# Altium footprint library Train2.PCBLIB: 223 footprints (part 11 of 14)
Each footprint in its own frame and in the unit in brackets; x right, y up, seen from the top. Pads: shape width x height; smd on the part's side, far side on the other; paste and mask are expansions set on the pad; w line width, h text height; cw(c..) or ccw(c..) is an arc to the next point about the centre after c.
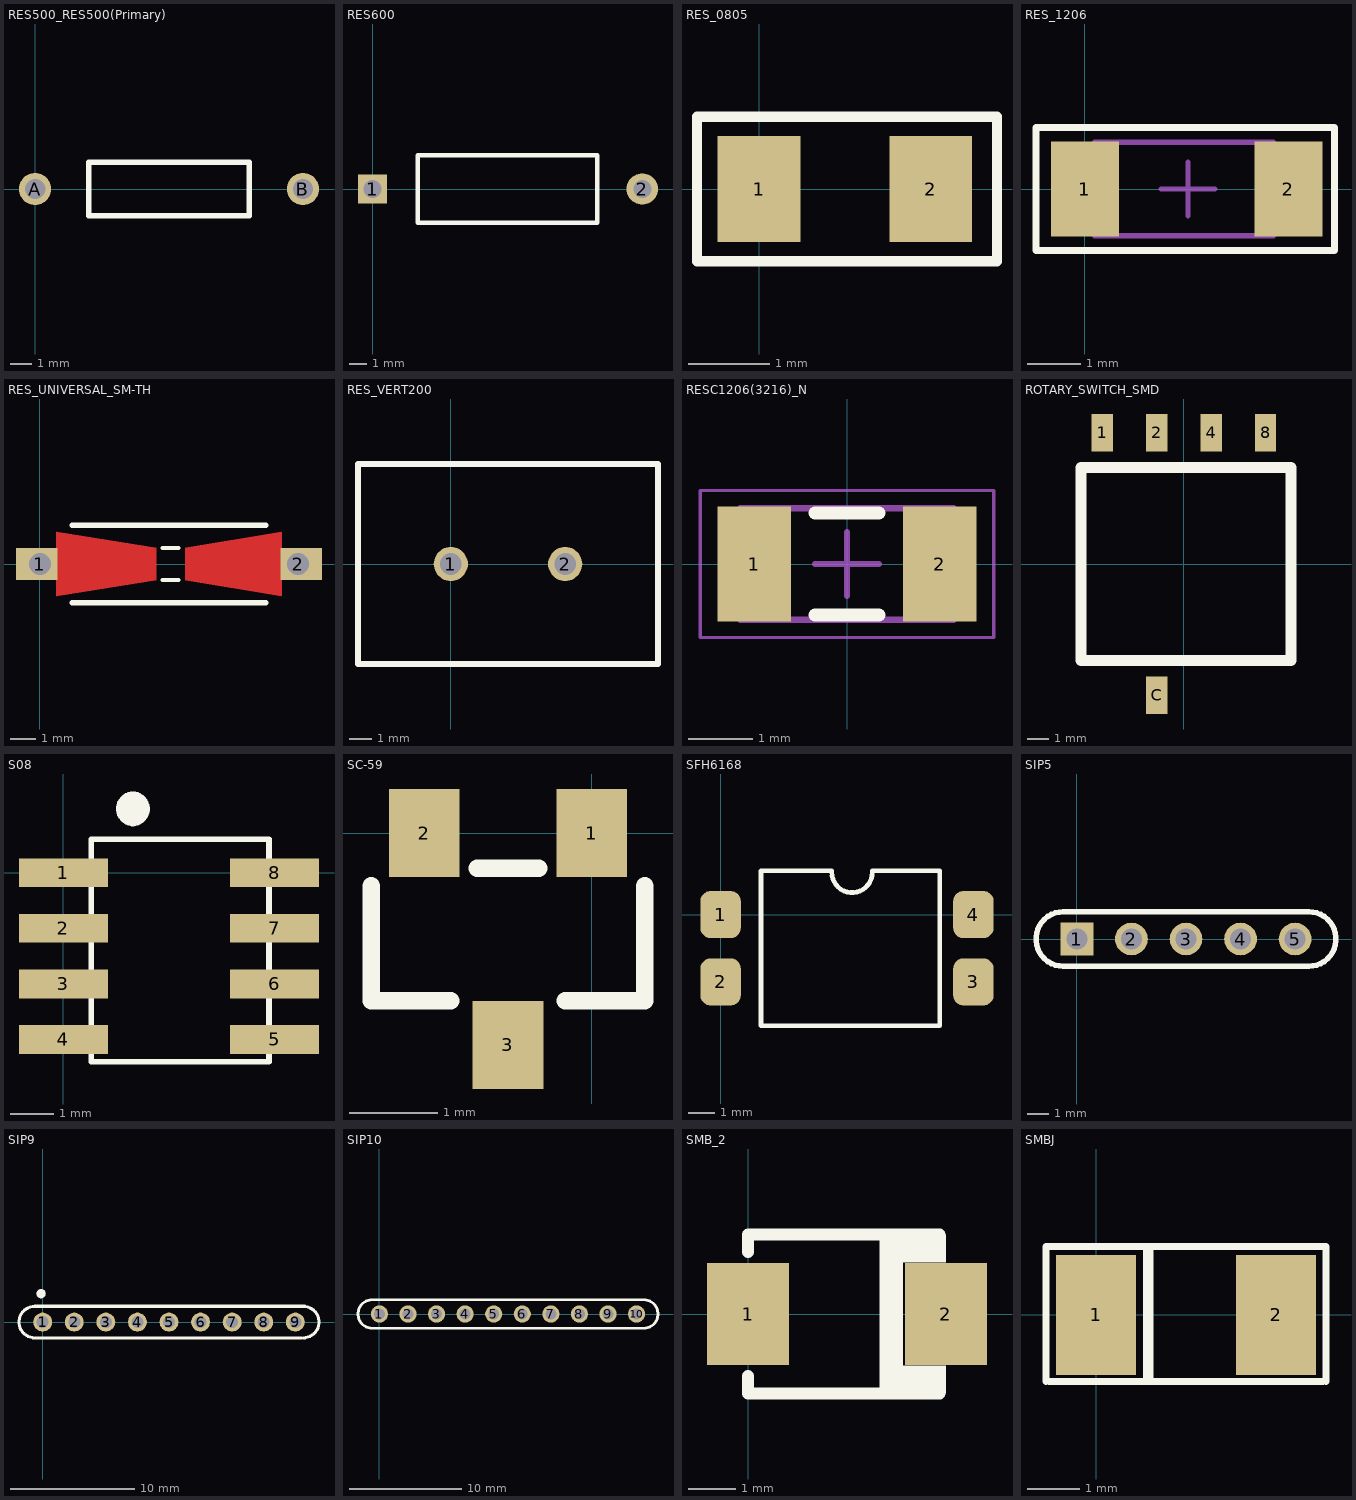
[diagram p10: the footprints below, top view; thin cyan lines are the x and y axes]

## RES500_RES500(Primary) [mil]
pads (2):
  round 60 hole 38: A(0,0) B(500,0)
Top Overlay:
  lines w10: 100,-50 400,-50 400,50 100,50 100,-50

## RES600 [mil]
pads (2):
  rect 65x65 hole 40: 1(0,0)
  round 70 hole 40: 2(600,0)
Top Overlay:
  lines w10: 100,-75 500,-75 500,75 100,75 100,-75

## RES_0805 [mil]
pads (2):
  rect 40x51 smd: 1(0,0) 2(83,0)
Top Overlay:
  lines w5: -30,-35 -30,35 115,35 115,-35 -30,-35

## RES_1206 [mil]
pads (2):
  rect 50x70 smd: 1(0,0) 2(150,0)
Top Overlay:
  lines w5: -36,-45.28 -36,45.28 184,45.28 184,-45.28 -36,-45.28
Mechanical 13:
  lines w3.94: 7.06,-34.45 7.06,34.45 138.94,34.45 138.94,-34.45 7.06,-34.45
Mechanical 15:
  lines w1.97: -36,-45.28 184,-45.28 184,45.28 -36,45.28 -36,-45.28
  lines w3.94: 56.31,0 95.69,0 ; 76,-19.68 76,19.69
3D body: height 29.53, standoff 0, extent 28.53,-34.43 121.48,34.43
3D body: height 29.53, standoff 0, extent 8.28,-34.43 28.53,34.43
3D body: height 29.53, standoff 0, extent 121.48,-34.43 140.93,34.43

## RES_UNIVERSAL_SM-TH [mil]
pads (2):
  rect 65x50 hole 34 copper offset -5,0: 1(0,0)
  rect 65x50 hole 34 copper offset 5,0: 2(400,0)
Top Layer:
  region: 375,50 375,-50 225,-25 225,25
  region: 25,50 25,-50 180,-25 180,25
Top Overlay:
  lines w6: 190,-25 215,-25 ; 190,25 215,25
  lines w8: 50,-60 350,-60 ; 50,60 350,60
Top Solder:
  region: 375,55 375,-55 220,-30 220,30
  region: 25,55 25,-55 185,-30 185,30

## RES_VERT200 [mil]
pads (2):
  round 60 hole 38: 1(0,0) 2(200,0)
Top Overlay:
  lines w10: -162.5,-175 362.5,-175 362.5,175 -162.5,175 -162.5,-175

## RESC1206(3216)_N [mm] "Chip Resistor, Body 3.2x1.6mm, IPC Medium Density"
height 0.75
pads (2):
  rect 1.15x1.8 smd: 1(-1.45,0) 2(1.45,0)
Top Overlay:
  lines w0.2: -0.5,-0.8 0.5,-0.8 ; -0.5,0.8 0.5,0.8
Mechanical 13:
  lines w0.1: -1.675,-0.875 -1.675,0.875 1.675,0.875 1.675,-0.875 -1.675,-0.875
Mechanical 15:
  lines w0.05: -2.3,-1.15 -2.3,1.15 2.3,1.15 2.3,-1.15 -2.3,-1.15
  lines w0.1: -0.5,0 0.5,0 ; 0,-0.5 0,0.5
3D body: height 0.75, standoff 0, extent -1.674,-0.874 -1.18,0.875
3D body: height 0.75, standoff 0, extent -1.18,-0.874 1.181,0.875
3D body: height 0.75, standoff 0, extent 1.181,-0.874 1.675,0.875

## ROTARY_SWITCH_SMD [mm] "16P ROTARY ENCODER SMD"
height 3.9
pads (5):
  rect 1x1.75 smd: 1(-3.81,6.125) 2(-1.27,6.125) 4(1.27,6.125) 8(3.81,6.125) C(-1.27,-6.125)
Top Overlay:
  lines w0.525: -4.8,-4.5 -1.5,-4.5 5,-4.5 5,4.5 0,4.5 -4.8,4.5 -4.8,-4.5

## S08 [mil]
pads (8):
  rect 80x26 smd: 1(0,0) 2(0,-50) 3(0,-100) 4(0,-150) 5(190,-150) 6(190,-100) 7(190,-50) 8(190,0)
Top Overlay:
  region: 60,70 50,60 50,55 60,45 70,45 75,55 75,65
  lines w5: 62,44.26 ccw(c62,57.5) 62,70.74 ; 63,44.26 cw(c63,57.5) 63,70.74 ; 25,-170 185,-170 185,30 25,30 25,-170

## SC-59 [mm]
pads (3):
  rect 0.8x1 smd: 1(0,0) 2(-1.9,0) 3(-0.95,-2.4)
Top Overlay:
  lines w0.2: -2.5,-0.6 -2.5,-1.9 -1.6,-1.9 ; -1.3,-0.4 -0.6,-0.4 ; -0.3,-1.9 0.6,-1.9 0.6,-0.6
3D body "SW3dPS-SOT-23.STEP": height 0.97, standoff -0.03, extent -2.398,-2.41 0.498,0.01

## SFH6168 [mil]
pads (4):
  rrect50% 60x70 smd: 1(0,0) 2(0,-100) 3(375,-100) 4(375,0)
Top Overlay:
  lines w7: 60,-165 325,-165 ; 60,-162.5 60,62.5 ; 60,65 165,65 ; 165,62.5 ccw(c195,62.5) 225,62.5 ; 225,65 325,65 ; 325,-162.5 325,62.5

## SIP5 [mil]
pads (5):
  rect 60x60 hole 38: 1(0,0)
  round 60 hole 38: 2(100,0) 3(200,0) 4(300,0) 5(400,0)
Top Overlay:
  lines w10: -25,-50 cw(c-25,0) -25,50 425,50 cw(c425,0) 425,-50 -25,-50

## SIP9 [mil]
pads (9):
  round 60 hole 38: 1(0,0) 2(100,0) 3(200,0) 4(300,0) 5(400,0) 6(500,0) 7(600,0) 8(700,0) 9(800,0)
Top Overlay:
  region: -20,90 -10,80 0,80 10,90 0,100 -10,100
  lines w7: -16.18,90 ccw(c-5,90) 6.18,90 ccw(c-5,90) -16.18,90
  lines w10: 820,-50 -25,-50 cw(c-25,0) -25,50 830,50 ; 825,-50 ccw(c825,0) 825,50

## SIP10 [mil]
pads (10):
  round 60 hole 38: 1(0,0) 2(100,0) 3(200,0) 4(300,0) 5(400,0) 6(500,0) 7(600,0) 8(700,0) 9(800,0) 10(900,0)
Top Overlay:
  lines w10: -25,-50 cw(c-25,0) -25,50 925,50 cw(c925,0) 925,-50 -25,-50

## SMB_2 [mm]
pads (2):
  rect 1.75x2.18 smd: 1(0,0) 2(4.22,0)
Top Overlay:
  rectangle: 2.8,-1.6 3.3,1.6
  rectangle: 3.2,-1.7 4.22,-1.1
  rectangle: 3.2,1.1 4.22,1.7
  lines w0.254: 0,-1.321 0,-1.7 4.089,-1.7 ; 0,1.321 0,1.7 4.089,1.7
3D body "SW3dPS-DO-214AA SMB.STEP": height 2.27, standoff -0.03, extent -0.617,-1.8 4.783,1.8

## SMBJ [mil]
pads (2):
  rect 60x90 smd: 1(0,0) 2(135,0)
Top Overlay:
  lines w5: -37.5,-50 -37.5,51.18 172.5,51.18 172.5,-50 ; -35,-50 170,-50
  lines w8: 39.09,-47.24 39.09,49.13